# Altium schematic symbol library PH_HEADER_4_WAY.SchLib: 1 symbol
Pins are listed as number, name and electrical type; pins without a type are passive.

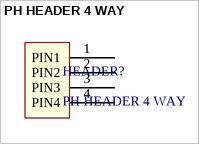
[diagram p0: symbol PH HEADER 4 WAY]

## PH HEADER 4 WAY
designator HEADER?
footprint PH_HEADER 4WAY (4 WAY PH HEADER)
pins: 1 PIN1, 2 PIN2, 3 PIN3, 4 PIN4